# Altium schematic symbol library 方波产生.SchLib: 4 symbols
Pins are listed as number, name and electrical type; pins without a type are passive.

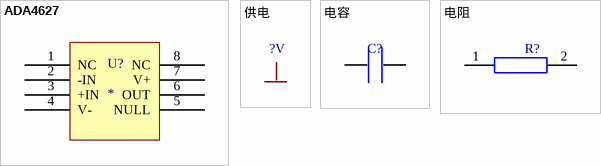
[diagram p0: symbols ADA4627 to 电阻]

## ADA4627
designator U?
ADA4627运算放大器
pins: 1 NC, 2 -IN, 3 +IN, 4 V-, 5 NULL, 6  OUT, 7 V+, 8 NC

## 供电
designator ?V
直流电压
pins: 10, 11

## 电容
designator C?  (value not drawn)
pins: 12, 13

## 电阻
designator R?
电阻模型
pins: 1 0, 2 1